# Altium footprint library SM_L_SRP1265A.PcbLib: 1 footprints
Each footprint in its own frame and in the unit in brackets; x right, y up, seen from the top. Pads: shape width x height; smd on the part's side, far side on the other; paste and mask are expansions set on the pad; w line width, h text height; cw(c..) or ccw(c..) is an arc to the next point about the centre after c.
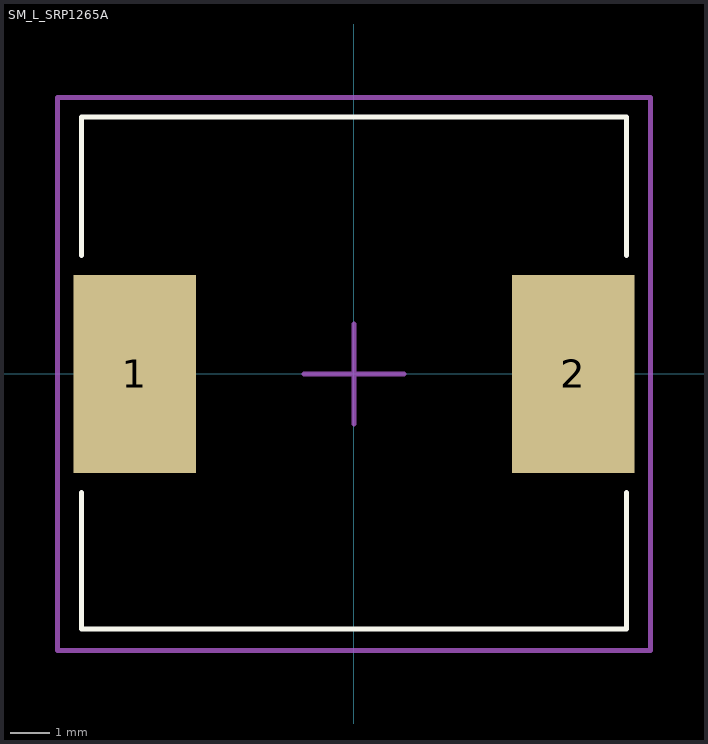
[diagram p0: the footprint, top view; thin cyan lines are the x and y axes]

## SM_L_SRP1265A [mm] "13.5mmX12.5mm"
height 6.4
pads (2):
  rect 3.1x5 smd: 1(-5.55,0) 2(5.55,0)
Top Overlay:
  lines w0.127: -6.9,-3 -6.9,-6.45 6.9,-6.45 6.9,-3 ; -6.9,3 -6.9,6.5 6.9,6.5 6.9,3
Mechanical 15:
  lines w0.127: -1.27,0 1.27,0 ; 0,-1.27 0,1.27 ; -7.5,-7 -7.5,7 7.5,7 7.5,-7 -7.5,-7
3D body: height 6.4, standoff 0, extent -6.75,-6.25 6.75,6.25